# EAGLE library part UPC8231TK (library renesas)
SiGe LNA FOR GPS/MOBILE COMMUNICATIONS
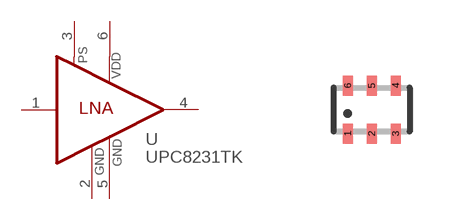
[diagram p3: symbol with the pads of MINIMOLD-6; footprint MINIMOLD-6]

Designator prefix U

## UPC8231TK  [MINIMOLD-6]
1  IN  in
2  GND  pwr
3  PS  in
4  OUT  out
5  GND  pwr
6  VCC  pwr

## Footprint MINIMOLD-6 (pad centres in mm)
MINI-MOLD-6 (1511)
smd 0.25 x 0.5: 1 -0.6,-0.6; 2 0,-0.6; 3 0.6,-0.6; 4 0.6,0.6; 5 0,0.6; 6 -0.6,0.6